# EAGLE library part THB6064AH (library Hoektronics)
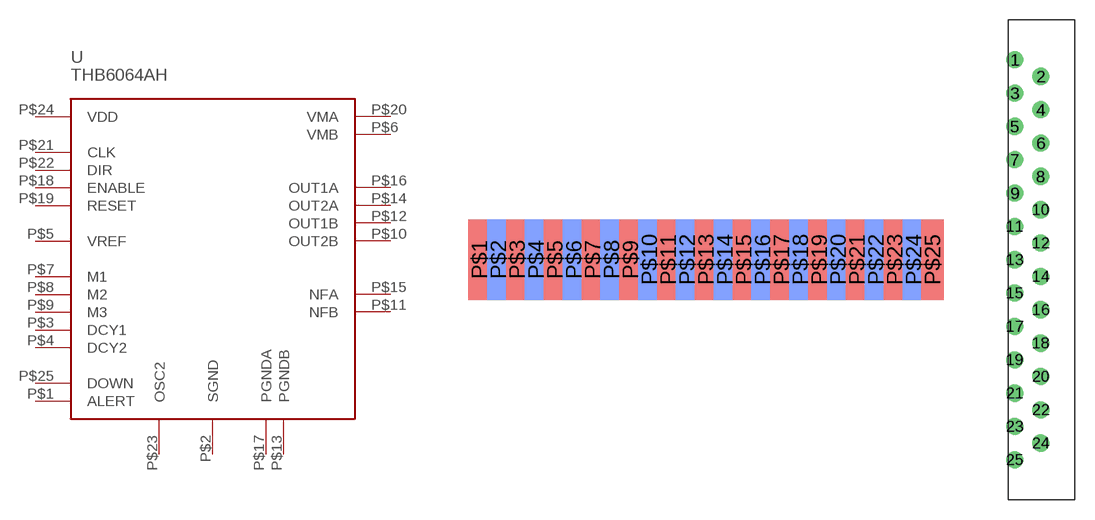
[diagram p14: symbol with the pads of HZIP25H; footprints HZIP25H, HZIP25V]

Designator prefix -

## THB6064AHAHQ-H  [HZIP25H]
P$1  ALERT
P$2  SGND
P$3  DCY1
P$4  DCY2
P$5  VREF
P$6  VMB
P$7  M1
P$8  M2
P$9  M3
P$10  OUT2B
P$11  NFB
P$12  OUT1B
P$13  PGNDB
P$14  OUT2A
P$15  NFA
P$16  OUT1A
P$17  PGNDA
P$18  ENABLE
P$19  RESET
P$20  VMA
P$21  CLK
P$22  DIR
P$23  OSC2
P$24  VDD
P$25  DOWN

## THB6064AHAHQ-V  [HZIP25V]
1  ALERT
2  SGND
3  DCY1
4  DCY2
5  VREF
6  VMB
7  M1
8  M2
9  M3
10  OUT2B
11  NFB
12  OUT1B
13  PGNDB
14  OUT2A
15  NFA
16  OUT1A
17  PGNDA
18  ENABLE
19  RESET
20  VMA
21  CLK
22  DIR
23  OSC2
24  VDD
25  DOWN

## Footprint HZIP25H (pad centres in mm)
smd 1.5 x 5.4: P$1 -15.24,-11.25; P$3 -12.7,-11.25; P$5 -10.16,-11.25; P$7 -7.62,-11.25; P$9 -5.08,-11.25; P$11 -2.54,-11.25; P$13 0,-11.25; P$15 2.54,-11.25; P$17 5.08,-11.25; P$19 7.62,-11.25; P$21 10.16,-11.25; P$23 12.7,-11.25; P$25 15.24,-11.25
smd 1.5 x 5.4 bottom: P$2 -13.97,-11.25; P$4 -11.43,-11.25; P$6 -8.89,-11.25; P$8 -6.35,-11.25; P$10 -3.81,-11.25; P$12 -1.27,-11.25; P$14 1.27,-11.25; P$16 3.81,-11.25; P$18 6.35,-11.25; P$20 8.89,-11.25; P$22 11.43,-11.25; P$24 13.97,-11.25

## Footprint HZIP25V (pad centres in mm)
drill 0.8: 1 0,15.24; 2 1.981,13.97; 3 0,12.7; 4 1.981,11.43; 5 0,10.16; 6 1.981,8.89; 7 0,7.62; 8 1.981,6.35; 9 0,5.08; 10 1.981,3.81; 11 0,2.54; 12 1.981,1.27; 13 0,0; 14 1.981,-1.27; 15 0,-2.54; 16 1.981,-3.81; 17 0,-5.08; 18 1.981,-6.35; 19 0,-7.62; 20 1.981,-8.89; 21 0,-10.16; 22 1.981,-11.43; 23 0,-12.7; 24 1.981,-13.97; 25 0,-15.24